# EAGLE library part AD726* (library ic-AD)
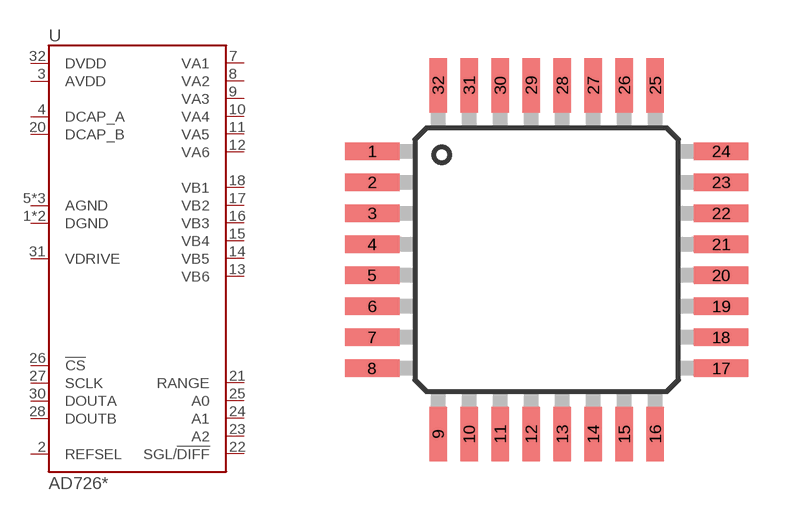
[diagram p5: symbol with the pads of QFP32-0.8; footprint QFP32-0.8]

Designator prefix U

## AD7265BSU, AD7266BSU  [QFP32-0.8]
1  DGND
2  REFSEL
3  AVDD
4  DCAP_A
5  AGND
6  AGND
7  VA1
8  VA2
9  VA3
10  VA4
11  VA5
12  VA6
13  VB6
14  VB5
15  VB4
16  VB3
17  VB2
18  VB1
19  AGND
20  DCAP_B
21  RANGE
22  SGL/!DIFF
23  A2
24  A1
25  A0
26  !CS
27  SCLK
28  DOUTB
29  DGND
30  DOUTA
31  VDRIVE
32  DVDD

## Footprint QFP32-0.8 (pad centres in mm)
smd 1.4 x 0.45: 1 -4.5,2.8; 2 -4.5,2; 3 -4.5,1.2; 4 -4.5,0.4; 5 -4.5,-0.4; 6 -4.5,-1.2; 7 -4.5,-2; 8 -4.5,-2.8; 17 4.5,-2.8; 18 4.5,-2; 19 4.5,-1.2; 20 4.5,-0.4; 21 4.5,0.4; 22 4.5,1.2; 23 4.5,2; 24 4.5,2.8
smd 0.45 x 1.4: 9 -2.8,-4.5; 10 -2,-4.5; 11 -1.2,-4.5; 12 -0.4,-4.5; 13 0.4,-4.5; 14 1.2,-4.5; 15 2,-4.5; 16 2.8,-4.5; 25 2.8,4.5; 26 2,4.5; 27 1.2,4.5; 28 0.4,4.5; 29 -0.4,4.5; 30 -1.2,4.5; 31 -2,4.5; 32 -2.8,4.5